# Altium integrated library Linear Technology Power Management System Supervisor, Monitor and Control.IntLib: 1611 symbols (part 75 of 100)
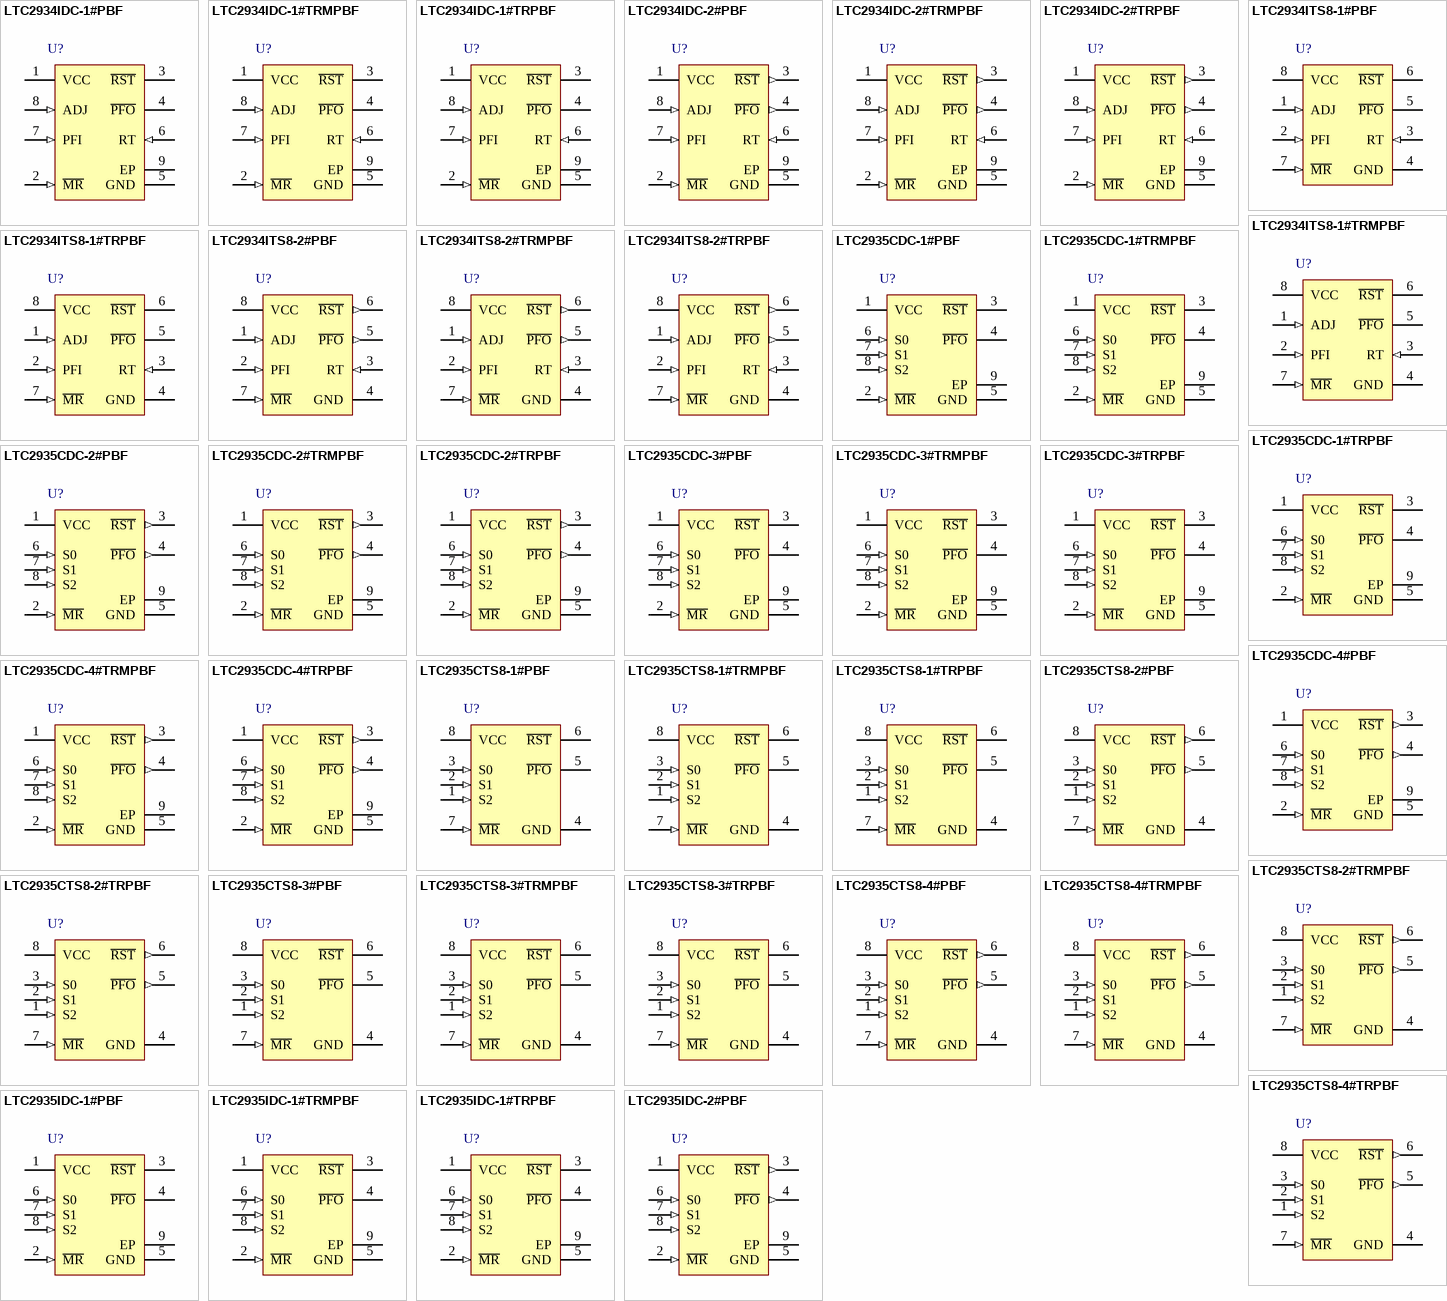
[diagram p119: symbols LTC2934IDC-1#PBF to LTC2935IDC-2#PBF]

## LTC2934ITS8-1#TRPBF
designator U?
Ultra-Low Power Adjustable Supervisor with Power-Fail Output, 8-pin SOT23 (TS8-8), -40 to 85 degC, Pb-Free, Tape and Reel; Manufacturer: Linear Technology; PartNumber: LTC2934ITS8-1#TRPBF; Number of Supplies(#): 1; PackageVersion: Rev. A, 08/2010; PackageReference: TS8-8; PackageDescription: 8-Pin Plastic TSOT-23, Body 2.9 x 1.63 mm, Pitch 0.65 mm; Supplier 1: Digi-Key; Supplier Part Number 1: LTC2934ITS8-1#TRPBF-ND; Packing: Tape and Reel; RoHS: TRUE; Mounting Technology: Surface Mount; Code_JEDEC: MO-193; ComponentLink1Description: Manufacturer URL; ComponentLink1URL: http://www.linear.com/; ComponentLink2Description: Datasheet; ComponentLink2URL: http://cds.linear.com/docs/en/datasheet/2934f.pdf; ComponentLink3Description: Package Specification; ComponentLink3URL: http://cds.linear.com/docs/en/packaging/SOT_8_05-08-1637.pdf
footprint LT-TS8-8-TSOT-23_V (SOT23, 8-Leads, Body 2.9x1.75mm, Pitch 0.65mm)
pins: 1 ADJ (in) "Reset Threshold Adjustment Input. Tie to resistive divider between monitored voltage and GND to configure  desired reset threshold. See the Applications Information  section for details. Tie to VCC if unused.", 2 PFI (in) "Power-Fail Threshold Adjustment Input. Tie to resistive divider between monitored voltage and GND to configure desired power-fail threshold. See the  Applications Information section for details. Tie to VCC or  GND if unused.", 3 RT (in) "Reset Timeout Selection Input. Tie to GND or VCC for desired reset timeout. Tie low for 15ms delay or high for  200ms delay.", 4 GND (power) "Device Ground.", 5 ~{PFO} (oc) "Power-Fail Output. P\F\O\ pulls low when monitored  voltage falls below the power-fail (PFI) threshold. P\F\O\ is released when the PFI voltage rises above the powerfail threshold by 2.5%. P\F\O\ is available with open-drain (See Datasheet)", 6 ~{RST} (oc) "Reset Output. R\S\T\ pulls low when monitored voltage falls below the reset threshold. R\S\T\ is released after  monitored voltage exceeds the reset threshold plus 5%  hysteresis and after reset timer has expired. R\S\T\ is (See Datasheet)", 7 ~{MR} (in) "Manual Reset Input. Attach a push-button switch between this input and ground. A logic low on this input pulls R\S\T\ low. When the M\R\ input returns to logic high,  R\S\T\ returns high after the reset timer has expired. (See Datasheet)", 8 VCC (power) "Power Supply Input. Bypass VCC with 0.1uF to  GND."

## LTC2934ITS8-2#PBF
designator U?
Ultra-Low Power Adjustable Supervisor with Power-Fail Output, 8-pin SOT23 (TS8-8), -40 to 85 degC, Pb-Free; Manufacturer: Linear Technology; PartNumber: LTC2934ITS8-2#PBF; Number of Supplies(#): 1; PackageVersion: Rev. A, 08/2010; PackageReference: TS8-8; PackageDescription: 8-Pin Plastic TSOT-23, Body 2.9 x 1.63 mm, Pitch 0.65 mm; RoHS: TRUE; Mounting Technology: Surface Mount; Code_JEDEC: MO-193; ComponentLink1Description: Manufacturer URL; ComponentLink1URL: http://www.linear.com/; ComponentLink2Description: Datasheet; ComponentLink2URL: http://cds.linear.com/docs/en/datasheet/2934f.pdf; ComponentLink3Description: Package Specification; ComponentLink3URL: http://cds.linear.com/docs/en/packaging/SOT_8_05-08-1637.pdf
footprint LT-TS8-8-TSOT-23_V (SOT23, 8-Leads, Body 2.9x1.75mm, Pitch 0.65mm)
pins: 1 ADJ (in) "Reset Threshold Adjustment Input. Tie to resistive divider between monitored voltage and GND to confi gure desired reset threshold. See the Applications Information section for details. Tie to VCC if unused.", 2 PFI (in) "Power-Fail Threshold Adjustment Input. Tie to resistive divider between monitored voltage and GND to configure desired power-fail threshold. See the Applications Information section for details. Tie to VCC or GND if unused.", 3 RT (in) "Reset Timeout Selection Input. Tie to GND or VCC for desired reset timeout. Tie low for 15ms delay or high for 200ms delay.", 4 GND (power) "Device Ground.", 5 ~{PFO} (out) "Power-Fail Output. P\F\O\ pulls low when monitored voltage falls below the power-fail (PFI) threshold. P\F\O\ is released when the PFI voltage rises above the powerfail threshold by 2.5%. P\F\O\ is available with open-drain (See Datasheet)", 6 ~{RST} (out) "Reset Output. R\S\T\ pulls low when monitored voltage falls below the reset threshold. R\S\T\ is released after monitored voltage exceeds the reset threshold plus 5% hysteresis and after reset timer has expired. R\S\T\ is (See Datasheet)", 7 ~{MR} (in) "Manual Reset Input. Attach a push-button switch between this input and ground. A logic low on this input pulls R\S\T\ low. When the M\R\ input returns to logic high, R\S\T\ returns high after the reset timer has expired. Tie (See Datasheet)", 8 VCC (power) "Power Supply Input. Bypass VCC with 0.1uF to GND."

## LTC2934ITS8-2#TRMPBF
designator U?
Ultra-Low Power Adjustable Supervisor with Power-Fail Output, 8-pin SOT23 (TS8-8), -40 to 85 degC, Pb-Free, Mini Tape and Reel; Manufacturer: Linear Technology; PartNumber: LTC2934ITS8-2#TRMPBF; Number of Supplies(#): 1; PackageVersion: Rev. A, 08/2010; PackageReference: TS8-8; PackageDescription: 8-Pin Plastic TSOT-23, Body 2.9 x 1.63 mm, Pitch 0.65 mm; Supplier 1: Digi-Key; Supplier Part Number 1: LTC2934ITS8-2#TRMPBFTR-ND; Supplier 2: Digi-Key; Supplier Part Number 2: LTC2934ITS8-2#TRMPBFCT-ND; Supplier 3: Digi-Key; Supplier Part Number 3: LTC2934ITS8-2#TRMPBFDKR-ND; Supplier 4: Newark; Supplier Part Number 4: 15N3498; Packing: Mini Tape and Reel; RoHS: TRUE; Mounting Technology: Surface Mount; Code_JEDEC: MO-193; ComponentLink1Description: Manufacturer URL; ComponentLink1URL: http://www.linear.com/; ComponentLink2Description: Datasheet; ComponentLink2URL: http://cds.linear.com/docs/en/datasheet/2934f.pdf; ComponentLink3Description: Package Specification; ComponentLink3URL: http://cds.linear.com/docs/en/packaging/SOT_8_05-08-1637.pdf
footprint LT-TS8-8-TSOT-23_V (SOT23, 8-Leads, Body 2.9x1.75mm, Pitch 0.65mm)
pins: 1 ADJ (in) "Reset Threshold Adjustment Input. Tie to resistive divider between monitored voltage and GND to confi gure desired reset threshold. See the Applications Information section for details. Tie to VCC if unused.", 2 PFI (in) "Power-Fail Threshold Adjustment Input. Tie to resistive divider between monitored voltage and GND to configure desired power-fail threshold. See the Applications Information section for details. Tie to VCC or GND if unused.", 3 RT (in) "Reset Timeout Selection Input. Tie to GND or VCC for desired reset timeout. Tie low for 15ms delay or high for 200ms delay.", 4 GND (power) "Device Ground.", 5 ~{PFO} (out) "Power-Fail Output. P\F\O\ pulls low when monitored voltage falls below the power-fail (PFI) threshold. P\F\O\ is released when the PFI voltage rises above the powerfail threshold by 2.5%. P\F\O\ is available with open-drain (See Datasheet)", 6 ~{RST} (out) "Reset Output. R\S\T\ pulls low when monitored voltage falls below the reset threshold. R\S\T\ is released after monitored voltage exceeds the reset threshold plus 5% hysteresis and after reset timer has expired. R\S\T\ is (See Datasheet)", 7 ~{MR} (in) "Manual Reset Input. Attach a push-button switch between this input and ground. A logic low on this input pulls R\S\T\ low. When the M\R\ input returns to logic high, R\S\T\ returns high after the reset timer has expired. Tie (See Datasheet)", 8 VCC (power) "Power Supply Input. Bypass VCC with 0.1uF to GND."

## LTC2934ITS8-2#TRPBF
designator U?
Ultra-Low Power Adjustable Supervisor with Power-Fail Output, 8-pin SOT23 (TS8-8), -40 to 85 degC, Pb-Free, Tape and Reel; Manufacturer: Linear Technology; PartNumber: LTC2934ITS8-2#TRPBF; Number of Supplies(#): 1; PackageVersion: Rev. A, 08/2010; PackageReference: TS8-8; PackageDescription: 8-Pin Plastic TSOT-23, Body 2.9 x 1.63 mm, Pitch 0.65 mm; Supplier 1: Digi-Key; Supplier Part Number 1: LTC2934ITS8-2#TRPBF-ND; Packing: Tape and Reel; RoHS: TRUE; Mounting Technology: Surface Mount; Code_JEDEC: MO-193; ComponentLink1Description: Manufacturer URL; ComponentLink1URL: http://www.linear.com/; ComponentLink2Description: Datasheet; ComponentLink2URL: http://cds.linear.com/docs/en/datasheet/2934f.pdf; ComponentLink3Description: Package Specification; ComponentLink3URL: http://cds.linear.com/docs/en/packaging/SOT_8_05-08-1637.pdf
footprint LT-TS8-8-TSOT-23_V (SOT23, 8-Leads, Body 2.9x1.75mm, Pitch 0.65mm)
pins: 1 ADJ (in) "Reset Threshold Adjustment Input. Tie to resistive divider between monitored voltage and GND to confi gure desired reset threshold. See the Applications Information section for details. Tie to VCC if unused.", 2 PFI (in) "Power-Fail Threshold Adjustment Input. Tie to resistive divider between monitored voltage and GND to configure desired power-fail threshold. See the Applications Information section for details. Tie to VCC or GND if unused.", 3 RT (in) "Reset Timeout Selection Input. Tie to GND or VCC for desired reset timeout. Tie low for 15ms delay or high for 200ms delay.", 4 GND (power) "Device Ground.", 5 ~{PFO} (out) "Power-Fail Output. P\F\O\ pulls low when monitored voltage falls below the power-fail (PFI) threshold. P\F\O\ is released when the PFI voltage rises above the powerfail threshold by 2.5%. P\F\O\ is available with open-drain (See Datasheet)", 6 ~{RST} (out) "Reset Output. R\S\T\ pulls low when monitored voltage falls below the reset threshold. R\S\T\ is released after monitored voltage exceeds the reset threshold plus 5% hysteresis and after reset timer has expired. R\S\T\ is (See Datasheet)", 7 ~{MR} (in) "Manual Reset Input. Attach a push-button switch between this input and ground. A logic low on this input pulls R\S\T\ low. When the M\R\ input returns to logic high, R\S\T\ returns high after the reset timer has expired. Tie (See Datasheet)", 8 VCC (power) "Power Supply Input. Bypass VCC with 0.1uF to GND."

## LTC2935CDC-1#PBF
designator U?
Ultra-Low Power Supervisor with Power-Fail Output, Selectable Threshold, 8-pin SON (DC8-8), 0 to 70 degC, Pb-Free; Manufacturer: Linear Technology; PartNumber: LTC2935CDC-1#PBF; Number of Supplies(#): 1; DatasheetVersion: Rev. A; PackageVersion: Rev. A, 06/2010; PackageReference: DC8-8; PackageDescription: 8-Pin Plastic DFN, Body 2 x 2 mm, Pitch 0.45 mm; RoHS: TRUE; Mounting Technology: Surface Mount; ComponentLink1Description: Manufacturer URL; ComponentLink1URL: http://www.linear.com/; ComponentLink2Description: Datasheet; ComponentLink2URL: http://cds.linear.com/docs/en/datasheet/2935fa.pdf; ComponentLink3Description: Package Specification; ComponentLink3URL: http://www.linear.com/docs/en/packaging/DFN_8_05-08-1719.pdf
footprint LT-DC8-8_V (SON, 8-Leads, Body 2x2mm, Pitch 0.45mm, Thermal Pad 1.37x0.64mm)
pins: 1 VCC (power) "Power Supply and Monitored Voltage Input. Bypass VCC with a 0.1uF capacitor to GND.", 2 ~{MR} (in) "Manual Reset Input. Attach a pushbutton switch between this input and ground. A logic low on this input pulls R\S\T\ low. When the M\R\ input returns to logic high, R\S\T\ returns high after 200ms. Tie to VCC if unused.", 3 ~{RST} (oc) "Reset Output. R\S\T\ pulls low when VCC falls below the reset threshold. R\S\T\ is released 200ms after VCC exceeds the reset threshold plus 5% hysteresis. R\S\T\ is available with open-drain (LTC2935-1/LTC2935-3) or active (See Datasheet)", 4 ~{PFO} (oc) "Power-Fail Output. P\F\O\ pulls low when VCC falls below the power-fail threshold. The power-fail threshold is above the configured falling reset threshold by a pre-determined margin. P\F\O\ is released when VCC rises above (See Datasheet)", 5 GND (power) "Device ground.", 6 S0 (in) "Threshold Selection Input. Tie to GND or VCC for required reset threshold. See the Falling Threshold Selection Table on page 1 for settings.", 7 S1 (in) "Threshold Selection Input. Tie to GND or VCC for required reset threshold. See the Falling Threshold Selection Table on page 1 for settings.", 8 S2 (in) "Threshold Selection Input. Tie to GND or VCC for required reset threshold. See the Falling Threshold Selection Table on page 1 for settings.", 9 EP (power) "Exposed Pad may be left floating or connected to device ground."

## LTC2935CDC-1#TRMPBF
designator U?
Ultra-Low Power Supervisor with Power-Fail Output, Selectable Threshold, 8-pin SON (DC8-8), 0 to 70 degC, Pb-Free, Mini Tape and Reel; Manufacturer: Linear Technology; PartNumber: LTC2935CDC-1#TRMPBF; Number of Supplies(#): 1; DatasheetVersion: Rev. A; PackageVersion: Rev. A, 06/2010; PackageReference: DC8-8; PackageDescription: 8-Pin Plastic DFN, Body 2 x 2 mm, Pitch 0.45 mm; Supplier 1: Digi-Key; Supplier Part Number 1: LTC2935CDC-1#TRMPBFTR-ND; Supplier 2: Digi-Key; Supplier Part Number 2: LTC2935CDC-1#TRMPBFCT-ND; Supplier 3: Digi-Key; Supplier Part Number 3: LTC2935CDC-1#TRMPBFDKR-ND; Supplier 4: Farnell; Supplier Part Number 4: 1715075; Packing: Mini Tape and Reel; RoHS: TRUE; Mounting Technology: Surface Mount; ComponentLink1Description: Manufacturer URL; ComponentLink1URL: http://www.linear.com/; ComponentLink2Description: Datasheet; ComponentLink2URL: http://cds.linear.com/docs/en/datasheet/2935fa.pdf; ComponentLink3Description: Package Specification; ComponentLink3URL: http://www.linear.com/docs/en/packaging/DFN_8_05-08-1719.pdf
footprint LT-DC8-8_V (SON, 8-Leads, Body 2x2mm, Pitch 0.45mm, Thermal Pad 1.37x0.64mm)
pins: 1 VCC (power) "Power Supply and Monitored Voltage Input. Bypass VCC with a 0.1uF capacitor to GND.", 2 ~{MR} (in) "Manual Reset Input. Attach a pushbutton switch between this input and ground. A logic low on this input pulls R\S\T\ low. When the M\R\ input returns to logic high, R\S\T\ returns high after 200ms. Tie to VCC if unused.", 3 ~{RST} (oc) "Reset Output. R\S\T\ pulls low when VCC falls below the reset threshold. R\S\T\ is released 200ms after VCC exceeds the reset threshold plus 5% hysteresis. R\S\T\ is available with open-drain (LTC2935-1/LTC2935-3) or active (See Datasheet)", 4 ~{PFO} (oc) "Power-Fail Output. P\F\O\ pulls low when VCC falls below the power-fail threshold. The power-fail threshold is above the configured falling reset threshold by a pre-determined margin. P\F\O\ is released when VCC rises above (See Datasheet)", 5 GND (power) "Device ground.", 6 S0 (in) "Threshold Selection Input. Tie to GND or VCC for required reset threshold. See the Falling Threshold Selection Table on page 1 for settings.", 7 S1 (in) "Threshold Selection Input. Tie to GND or VCC for required reset threshold. See the Falling Threshold Selection Table on page 1 for settings.", 8 S2 (in) "Threshold Selection Input. Tie to GND or VCC for required reset threshold. See the Falling Threshold Selection Table on page 1 for settings.", 9 EP (power) "Exposed Pad may be left floating or connected to device ground."

## LTC2935CDC-1#TRPBF
designator U?
Ultra-Low Power Supervisor with Power-Fail Output, Selectable Threshold, 8-pin SON (DC8-8), 0 to 70 degC, Pb-Free, Tape and Reel; Manufacturer: Linear Technology; PartNumber: LTC2935CDC-1#TRPBF; Number of Supplies(#): 1; DatasheetVersion: Rev. A; PackageVersion: Rev. A, 06/2010; PackageReference: DC8-8; PackageDescription: 8-Pin Plastic DFN, Body 2 x 2 mm, Pitch 0.45 mm; Supplier 1: Digi-Key; Supplier Part Number 1: LTC2935CDC-1#TRPBF-ND; Packing: Tape and Reel; RoHS: TRUE; Mounting Technology: Surface Mount; ComponentLink1Description: Manufacturer URL; ComponentLink1URL: http://www.linear.com/; ComponentLink2Description: Datasheet; ComponentLink2URL: http://cds.linear.com/docs/en/datasheet/2935fa.pdf; ComponentLink3Description: Package Specification; ComponentLink3URL: http://www.linear.com/docs/en/packaging/DFN_8_05-08-1719.pdf
footprint LT-DC8-8_V (SON, 8-Leads, Body 2x2mm, Pitch 0.45mm, Thermal Pad 1.37x0.64mm)
pins: 1 VCC (power) "Power Supply and Monitored Voltage Input. Bypass VCC with a 0.1uF capacitor to GND.", 2 ~{MR} (in) "Manual Reset Input. Attach a pushbutton switch between this input and ground. A logic low on this input pulls R\S\T\ low. When the M\R\ input returns to logic high, R\S\T\ returns high after 200ms. Tie to VCC if unused.", 3 ~{RST} (oc) "Reset Output. R\S\T\ pulls low when VCC falls below the reset threshold. R\S\T\ is released 200ms after VCC exceeds the reset threshold plus 5% hysteresis. R\S\T\ is available with open-drain (LTC2935-1/LTC2935-3) or active (See Datasheet)", 4 ~{PFO} (oc) "Power-Fail Output. P\F\O\ pulls low when VCC falls below the power-fail threshold. The power-fail threshold is above the configured falling reset threshold by a pre-determined margin. P\F\O\ is released when VCC rises above (See Datasheet)", 5 GND (power) "Device ground.", 6 S0 (in) "Threshold Selection Input. Tie to GND or VCC for required reset threshold. See the Falling Threshold Selection Table on page 1 for settings.", 7 S1 (in) "Threshold Selection Input. Tie to GND or VCC for required reset threshold. See the Falling Threshold Selection Table on page 1 for settings.", 8 S2 (in) "Threshold Selection Input. Tie to GND or VCC for required reset threshold. See the Falling Threshold Selection Table on page 1 for settings.", 9 EP (power) "Exposed Pad may be left floating or connected to device ground."

## LTC2935CDC-2#PBF
designator U?
Ultra-Low Power Supervisor with Power-Fail Output, Selectable Threshold, 8-pin SON (DC8-8), 0 to 70 degC, Pb-Free; Manufacturer: Linear Technology; PartNumber: LTC2935CDC-2#PBF; Number of Supplies(#): 1; DatasheetVersion: Rev. A; PackageVersion: Rev. A, 06/2010; PackageReference: DC8-8; PackageDescription: 8-Pin Plastic DFN, Body 2 x 2 mm, Pitch 0.45 mm; Supplier 1: Newark; Supplier Part Number 1: 78T3095; RoHS: TRUE; Mounting Technology: Surface Mount; ComponentLink1Description: Manufacturer URL; ComponentLink1URL: http://www.linear.com/; ComponentLink2Description: Datasheet; ComponentLink2URL: http://cds.linear.com/docs/en/datasheet/2935fa.pdf; ComponentLink3Description: Package Specification; ComponentLink3URL: http://www.linear.com/docs/en/packaging/DFN_8_05-08-1719.pdf
footprint LT-DC8-8_V (SON, 8-Leads, Body 2x2mm, Pitch 0.45mm, Thermal Pad 1.37x0.64mm)
pins: 1 VCC (power) "Power Supply and Monitored Voltage Input. Bypass VCC with a 0.1uF capacitor to GND.", 2 ~{MR} (in) "Manual Reset Input. Attach a pushbutton switch between this input and ground. A logic low on this input pulls R\S\T\ low. When the M\R\ input returns to logic high, R\S\T\ returns high after 200ms. Tie to VCC if unused.", 3 ~{RST} (out) "Reset Output. R\S\T\ pulls low when VCC falls below the reset threshold. R\S\T\ is released 200ms after VCC exceeds the reset threshold plus 5% hysteresis. R\S\T\ is available with open-drain (LTC2935-1/LTC2935-3) or active (See Datasheet)", 4 ~{PFO} (out) "Power-Fail Output. P\F\O\ pulls low when VCC falls below the power-fail threshold. The power-fail threshold is above the configured falling reset threshold by a pre-determined margin. P\F\O\ is released when VCC rises above (See Datasheet)", 5 GND (power) "Device ground.", 6 S0 (in) "Threshold Selection Input. Tie to GND or VCC for required reset threshold. See the Falling Threshold Selection Table on page 1 for settings.", 7 S1 (in) "Threshold Selection Input. Tie to GND or VCC for required reset threshold. See the Falling Threshold Selection Table on page 1 for settings.", 8 S2 (in) "Threshold Selection Input. Tie to GND or VCC for required reset threshold. See the Falling Threshold Selection Table on page 1 for settings.", 9 EP (power) "Exposed Pad may be left floating or connected to device ground."

## LTC2935CDC-2#TRMPBF
designator U?
Ultra-Low Power Supervisor with Power-Fail Output, Selectable Threshold, 8-pin SON (DC8-8), 0 to 70 degC, Pb-Free, Mini Tape and Reel; Manufacturer: Linear Technology; PartNumber: LTC2935CDC-2#TRMPBF; Number of Supplies(#): 1; DatasheetVersion: Rev. A; PackageVersion: Rev. A, 06/2010; PackageReference: DC8-8; PackageDescription: 8-Pin Plastic DFN, Body 2 x 2 mm, Pitch 0.45 mm; Supplier 1: Digi-Key; Supplier Part Number 1: LTC2935CDC-2#TRMPBFTR-ND; Supplier 2: Digi-Key; Supplier Part Number 2: LTC2935CDC-2#TRMPBFCT-ND; Supplier 3: Digi-Key; Supplier Part Number 3: LTC2935CDC-2#TRMPBFDKR-ND; Supplier 4: Farnell; Supplier Part Number 4: 1715076; Packing: Mini Tape and Reel; RoHS: TRUE; Mounting Technology: Surface Mount; ComponentLink1Description: Manufacturer URL; ComponentLink1URL: http://www.linear.com/; ComponentLink2Description: Datasheet; ComponentLink2URL: http://cds.linear.com/docs/en/datasheet/2935fa.pdf; ComponentLink3Description: Package Specification; ComponentLink3URL: http://www.linear.com/docs/en/packaging/DFN_8_05-08-1719.pdf
footprint LT-DC8-8_V (SON, 8-Leads, Body 2x2mm, Pitch 0.45mm, Thermal Pad 1.37x0.64mm)
pins: 1 VCC (power) "Power Supply and Monitored Voltage Input. Bypass VCC with a 0.1uF capacitor to GND.", 2 ~{MR} (in) "Manual Reset Input. Attach a pushbutton switch between this input and ground. A logic low on this input pulls R\S\T\ low. When the M\R\ input returns to logic high, R\S\T\ returns high after 200ms. Tie to VCC if unused.", 3 ~{RST} (out) "Reset Output. R\S\T\ pulls low when VCC falls below the reset threshold. R\S\T\ is released 200ms after VCC exceeds the reset threshold plus 5% hysteresis. R\S\T\ is available with open-drain (LTC2935-1/LTC2935-3) or active (See Datasheet)", 4 ~{PFO} (out) "Power-Fail Output. P\F\O\ pulls low when VCC falls below the power-fail threshold. The power-fail threshold is above the configured falling reset threshold by a pre-determined margin. P\F\O\ is released when VCC rises above (See Datasheet)", 5 GND (power) "Device ground.", 6 S0 (in) "Threshold Selection Input. Tie to GND or VCC for required reset threshold. See the Falling Threshold Selection Table on page 1 for settings.", 7 S1 (in) "Threshold Selection Input. Tie to GND or VCC for required reset threshold. See the Falling Threshold Selection Table on page 1 for settings.", 8 S2 (in) "Threshold Selection Input. Tie to GND or VCC for required reset threshold. See the Falling Threshold Selection Table on page 1 for settings.", 9 EP (power) "Exposed Pad may be left floating or connected to device ground."

## LTC2935CDC-2#TRPBF
designator U?
Ultra-Low Power Supervisor with Power-Fail Output, Selectable Threshold, 8-pin SON (DC8-8), 0 to 70 degC, Pb-Free, Tape and Reel; Manufacturer: Linear Technology; PartNumber: LTC2935CDC-2#TRPBF; Number of Supplies(#): 1; DatasheetVersion: Rev. A; PackageVersion: Rev. A, 06/2010; PackageReference: DC8-8; PackageDescription: 8-Pin Plastic DFN, Body 2 x 2 mm, Pitch 0.45 mm; Supplier 1: Digi-Key; Supplier Part Number 1: LTC2935CDC-2#TRPBF-ND; Packing: Tape and Reel; RoHS: TRUE; Mounting Technology: Surface Mount; ComponentLink1Description: Manufacturer URL; ComponentLink1URL: http://www.linear.com/; ComponentLink2Description: Datasheet; ComponentLink2URL: http://cds.linear.com/docs/en/datasheet/2935fa.pdf; ComponentLink3Description: Package Specification; ComponentLink3URL: http://www.linear.com/docs/en/packaging/DFN_8_05-08-1719.pdf
footprint LT-DC8-8_V (SON, 8-Leads, Body 2x2mm, Pitch 0.45mm, Thermal Pad 1.37x0.64mm)
pins: 1 VCC (power) "Power Supply and Monitored Voltage Input. Bypass VCC with a 0.1uF capacitor to GND.", 2 ~{MR} (in) "Manual Reset Input. Attach a pushbutton switch between this input and ground. A logic low on this input pulls R\S\T\ low. When the M\R\ input returns to logic high, R\S\T\ returns high after 200ms. Tie to VCC if unused.", 3 ~{RST} (out) "Reset Output. R\S\T\ pulls low when VCC falls below the reset threshold. R\S\T\ is released 200ms after VCC exceeds the reset threshold plus 5% hysteresis. R\S\T\ is available with open-drain (LTC2935-1/LTC2935-3) or active (See Datasheet)", 4 ~{PFO} (out) "Power-Fail Output. P\F\O\ pulls low when VCC falls below the power-fail threshold. The power-fail threshold is above the configured falling reset threshold by a pre-determined margin. P\F\O\ is released when VCC rises above (See Datasheet)", 5 GND (power) "Device ground.", 6 S0 (in) "Threshold Selection Input. Tie to GND or VCC for required reset threshold. See the Falling Threshold Selection Table on page 1 for settings.", 7 S1 (in) "Threshold Selection Input. Tie to GND or VCC for required reset threshold. See the Falling Threshold Selection Table on page 1 for settings.", 8 S2 (in) "Threshold Selection Input. Tie to GND or VCC for required reset threshold. See the Falling Threshold Selection Table on page 1 for settings.", 9 EP (power) "Exposed Pad may be left floating or connected to device ground."

## LTC2935CDC-3#PBF
designator U?
Ultra-Low Power Supervisor with Power-Fail Output, Selectable Threshold, 8-pin SON (DC8-8), 0 to 70 degC, Pb-Free; Manufacturer: Linear Technology; PartNumber: LTC2935CDC-3#PBF; Number of Supplies(#): 1; DatasheetVersion: Rev. A; PackageVersion: Rev. A, 06/2010; PackageReference: DC8-8; PackageDescription: 8-Pin Plastic DFN, Body 2 x 2 mm, Pitch 0.45 mm; Supplier 1: Newark; Supplier Part Number 1: 24R8509; RoHS: TRUE; Mounting Technology: Surface Mount; ComponentLink1Description: Manufacturer URL; ComponentLink1URL: http://www.linear.com/; ComponentLink2Description: Datasheet; ComponentLink2URL: http://cds.linear.com/docs/en/datasheet/2935fa.pdf; ComponentLink3Description: Package Specification; ComponentLink3URL: http://www.linear.com/docs/en/packaging/DFN_8_05-08-1719.pdf
footprint LT-DC8-8_V (SON, 8-Leads, Body 2x2mm, Pitch 0.45mm, Thermal Pad 1.37x0.64mm)
pins: 1 VCC (power) "Power Supply and Monitored Voltage Input. Bypass VCC with a 0.1uF capacitor to GND.", 2 ~{MR} (in) "Manual Reset Input. Attach a pushbutton switch between this input and ground. A logic low on this input pulls R\S\T\ low. When the M\R\ input returns to logic high, R\S\T\ returns high after 200ms. Tie to VCC if unused.", 3 ~{RST} (oc) "Reset Output. R\S\T\ pulls low when VCC falls below the reset threshold. R\S\T\ is released 200ms after VCC exceeds the reset threshold plus 5% hysteresis. R\S\T\ is available with open-drain (LTC2935-1/LTC2935-3) or active (See Datasheet)", 4 ~{PFO} (oc) "Power-Fail Output. P\F\O\ pulls low when VCC falls below the power-fail threshold. The power-fail threshold is above the configured falling reset threshold by a pre-determined margin. P\F\O\ is released when VCC rises above (See Datasheet)", 5 GND (power) "Device ground.", 6 S0 (in) "Threshold Selection Input. Tie to GND or VCC for required reset threshold. See the Falling Threshold Selection Table on page 1 for settings.", 7 S1 (in) "Threshold Selection Input. Tie to GND or VCC for required reset threshold. See the Falling Threshold Selection Table on page 1 for settings.", 8 S2 (in) "Threshold Selection Input. Tie to GND or VCC for required reset threshold. See the Falling Threshold Selection Table on page 1 for settings.", 9 EP (power) "Exposed Pad may be left floating or connected to device ground."

## LTC2935CDC-3#TRMPBF
designator U?
Ultra-Low Power Supervisor with Power-Fail Output, Selectable Threshold, 8-pin SON (DC8-8), 0 to 70 degC, Pb-Free, Mini Tape and Reel; Manufacturer: Linear Technology; PartNumber: LTC2935CDC-3#TRMPBF; Number of Supplies(#): 1; DatasheetVersion: Rev. A; PackageVersion: Rev. A, 06/2010; PackageReference: DC8-8; PackageDescription: 8-Pin Plastic DFN, Body 2 x 2 mm, Pitch 0.45 mm; Supplier 1: Digi-Key; Supplier Part Number 1: LTC2935CDC-3#TRMPBFTR-ND; Supplier 2: Digi-Key; Supplier Part Number 2: LTC2935CDC-3#TRMPBFCT-ND; Supplier 3: Digi-Key; Supplier Part Number 3: LTC2935CDC-3#TRMPBFDKR-ND; Packing: Mini Tape and Reel; RoHS: TRUE; Mounting Technology: Surface Mount; ComponentLink1Description: Manufacturer URL; ComponentLink1URL: http://www.linear.com/; ComponentLink2Description: Datasheet; ComponentLink2URL: http://cds.linear.com/docs/en/datasheet/2935fa.pdf; ComponentLink3Description: Package Specification; ComponentLink3URL: http://www.linear.com/docs/en/packaging/DFN_8_05-08-1719.pdf
footprint LT-DC8-8_V (SON, 8-Leads, Body 2x2mm, Pitch 0.45mm, Thermal Pad 1.37x0.64mm)
pins: 1 VCC (power) "Power Supply and Monitored Voltage Input. Bypass VCC with a 0.1uF capacitor to GND.", 2 ~{MR} (in) "Manual Reset Input. Attach a pushbutton switch between this input and ground. A logic low on this input pulls R\S\T\ low. When the M\R\ input returns to logic high, R\S\T\ returns high after 200ms. Tie to VCC if unused.", 3 ~{RST} (oc) "Reset Output. R\S\T\ pulls low when VCC falls below the reset threshold. R\S\T\ is released 200ms after VCC exceeds the reset threshold plus 5% hysteresis. R\S\T\ is available with open-drain (LTC2935-1/LTC2935-3) or active (See Datasheet)", 4 ~{PFO} (oc) "Power-Fail Output. P\F\O\ pulls low when VCC falls below the power-fail threshold. The power-fail threshold is above the configured falling reset threshold by a pre-determined margin. P\F\O\ is released when VCC rises above (See Datasheet)", 5 GND (power) "Device ground.", 6 S0 (in) "Threshold Selection Input. Tie to GND or VCC for required reset threshold. See the Falling Threshold Selection Table on page 1 for settings.", 7 S1 (in) "Threshold Selection Input. Tie to GND or VCC for required reset threshold. See the Falling Threshold Selection Table on page 1 for settings.", 8 S2 (in) "Threshold Selection Input. Tie to GND or VCC for required reset threshold. See the Falling Threshold Selection Table on page 1 for settings.", 9 EP (power) "Exposed Pad may be left floating or connected to device ground."

## LTC2935CDC-3#TRPBF
designator U?
Ultra-Low Power Supervisor with Power-Fail Output, Selectable Threshold, 8-pin SON (DC8-8), 0 to 70 degC, Pb-Free, Tape and Reel; Manufacturer: Linear Technology; PartNumber: LTC2935CDC-3#TRPBF; Number of Supplies(#): 1; DatasheetVersion: Rev. A; PackageVersion: Rev. A, 06/2010; PackageReference: DC8-8; PackageDescription: 8-Pin Plastic DFN, Body 2 x 2 mm, Pitch 0.45 mm; Supplier 1: Digi-Key; Supplier Part Number 1: LTC2935CDC-3#TRPBF-ND; Packing: Tape and Reel; RoHS: TRUE; Mounting Technology: Surface Mount; ComponentLink1Description: Manufacturer URL; ComponentLink1URL: http://www.linear.com/; ComponentLink2Description: Datasheet; ComponentLink2URL: http://cds.linear.com/docs/en/datasheet/2935fa.pdf; ComponentLink3Description: Package Specification; ComponentLink3URL: http://www.linear.com/docs/en/packaging/DFN_8_05-08-1719.pdf
footprint LT-DC8-8_V (SON, 8-Leads, Body 2x2mm, Pitch 0.45mm, Thermal Pad 1.37x0.64mm)
pins: 1 VCC (power) "Power Supply and Monitored Voltage Input. Bypass VCC with a 0.1uF capacitor to GND.", 2 ~{MR} (in) "Manual Reset Input. Attach a pushbutton switch between this input and ground. A logic low on this input pulls R\S\T\ low. When the M\R\ input returns to logic high, R\S\T\ returns high after 200ms. Tie to VCC if unused.", 3 ~{RST} (oc) "Reset Output. R\S\T\ pulls low when VCC falls below the reset threshold. R\S\T\ is released 200ms after VCC exceeds the reset threshold plus 5% hysteresis. R\S\T\ is available with open-drain (LTC2935-1/LTC2935-3) or active (See Datasheet)", 4 ~{PFO} (oc) "Power-Fail Output. P\F\O\ pulls low when VCC falls below the power-fail threshold. The power-fail threshold is above the configured falling reset threshold by a pre-determined margin. P\F\O\ is released when VCC rises above (See Datasheet)", 5 GND (power) "Device ground.", 6 S0 (in) "Threshold Selection Input. Tie to GND or VCC for required reset threshold. See the Falling Threshold Selection Table on page 1 for settings.", 7 S1 (in) "Threshold Selection Input. Tie to GND or VCC for required reset threshold. See the Falling Threshold Selection Table on page 1 for settings.", 8 S2 (in) "Threshold Selection Input. Tie to GND or VCC for required reset threshold. See the Falling Threshold Selection Table on page 1 for settings.", 9 EP (power) "Exposed Pad may be left floating or connected to device ground."

## LTC2935CDC-4#PBF
designator U?
Ultra-Low Power Supervisor with Power-Fail Output, Selectable Threshold, 8-pin SON (DC8-8), 0 to 70 degC, Pb-Free; Manufacturer: Linear Technology; PartNumber: LTC2935CDC-4#PBF; Number of Supplies(#): 1; DatasheetVersion: Rev. A; PackageVersion: Rev. A, 06/2010; PackageReference: DC8-8; PackageDescription: 8-Pin Plastic DFN, Body 2 x 2 mm, Pitch 0.45 mm; Supplier 1: Newark; Supplier Part Number 1: 24R8510; RoHS: TRUE; Mounting Technology: Surface Mount; ComponentLink1Description: Manufacturer URL; ComponentLink1URL: http://www.linear.com/; ComponentLink2Description: Datasheet; ComponentLink2URL: http://cds.linear.com/docs/en/datasheet/2935fa.pdf; ComponentLink3Description: Package Specification; ComponentLink3URL: http://www.linear.com/docs/en/packaging/DFN_8_05-08-1719.pdf
footprint LT-DC8-8_V (SON, 8-Leads, Body 2x2mm, Pitch 0.45mm, Thermal Pad 1.37x0.64mm)
pins: 1 VCC (power) "Power Supply and Monitored Voltage Input. Bypass VCC with a 0.1uF capacitor to GND.", 2 ~{MR} (in) "Manual Reset Input. Attach a pushbutton switch between this input and ground. A logic low on this input pulls R\S\T\ low. When the M\R\ input returns to logic high, R\S\T\ returns high after 200ms. Tie to VCC if unused.", 3 ~{RST} (out) "Reset Output. R\S\T\ pulls low when VCC falls below the reset threshold. R\S\T\ is released 200ms after VCC exceeds the reset threshold plus 5% hysteresis. R\S\T\ is available with open-drain (LTC2935-1/LTC2935-3) or active (See Datasheet)", 4 ~{PFO} (out) "Power-Fail Output. P\F\O\ pulls low when VCC falls below the power-fail threshold. The power-fail threshold is above the configured falling reset threshold by a pre-determined margin. P\F\O\ is released when VCC rises above (See Datasheet)", 5 GND (power) "Device ground.", 6 S0 (in) "Threshold Selection Input. Tie to GND or VCC for required reset threshold. See the Falling Threshold Selection Table on page 1 for settings.", 7 S1 (in) "Threshold Selection Input. Tie to GND or VCC for required reset threshold. See the Falling Threshold Selection Table on page 1 for settings.", 8 S2 (in) "Threshold Selection Input. Tie to GND or VCC for required reset threshold. See the Falling Threshold Selection Table on page 1 for settings.", 9 EP (power) "Exposed Pad may be left floating or connected to device ground."

## LTC2935CDC-4#TRMPBF
designator U?
Ultra-Low Power Supervisor with Power-Fail Output, Selectable Threshold, 8-pin SON (DC8-8), 0 to 70 degC, Pb-Free, Mini Tape and Reel; Manufacturer: Linear Technology; PartNumber: LTC2935CDC-4#TRMPBF; Number of Supplies(#): 1; DatasheetVersion: Rev. A; PackageVersion: Rev. A, 06/2010; PackageReference: DC8-8; PackageDescription: 8-Pin Plastic DFN, Body 2 x 2 mm, Pitch 0.45 mm; Supplier 1: Digi-Key; Supplier Part Number 1: LTC2935CDC-4#TRMPBFTR-ND; Supplier 2: Digi-Key; Supplier Part Number 2: LTC2935CDC-4#TRMPBFCT-ND; Supplier 3: Digi-Key; Supplier Part Number 3: LTC2935CDC-4#TRMPBFDKR-ND; Packing: Mini Tape and Reel; RoHS: TRUE; Mounting Technology: Surface Mount; ComponentLink1Description: Manufacturer URL; ComponentLink1URL: http://www.linear.com/; ComponentLink2Description: Datasheet; ComponentLink2URL: http://cds.linear.com/docs/en/datasheet/2935fa.pdf; ComponentLink3Description: Package Specification; ComponentLink3URL: http://www.linear.com/docs/en/packaging/DFN_8_05-08-1719.pdf
footprint LT-DC8-8_V (SON, 8-Leads, Body 2x2mm, Pitch 0.45mm, Thermal Pad 1.37x0.64mm)
pins: 1 VCC (power) "Power Supply and Monitored Voltage Input. Bypass VCC with a 0.1uF capacitor to GND.", 2 ~{MR} (in) "Manual Reset Input. Attach a pushbutton switch between this input and ground. A logic low on this input pulls R\S\T\ low. When the M\R\ input returns to logic high, R\S\T\ returns high after 200ms. Tie to VCC if unused.", 3 ~{RST} (out) "Reset Output. R\S\T\ pulls low when VCC falls below the reset threshold. R\S\T\ is released 200ms after VCC exceeds the reset threshold plus 5% hysteresis. R\S\T\ is available with open-drain (LTC2935-1/LTC2935-3) or active (See Datasheet)", 4 ~{PFO} (out) "Power-Fail Output. P\F\O\ pulls low when VCC falls below the power-fail threshold. The power-fail threshold is above the configured falling reset threshold by a pre-determined margin. P\F\O\ is released when VCC rises above (See Datasheet)", 5 GND (power) "Device ground.", 6 S0 (in) "Threshold Selection Input. Tie to GND or VCC for required reset threshold. See the Falling Threshold Selection Table on page 1 for settings.", 7 S1 (in) "Threshold Selection Input. Tie to GND or VCC for required reset threshold. See the Falling Threshold Selection Table on page 1 for settings.", 8 S2 (in) "Threshold Selection Input. Tie to GND or VCC for required reset threshold. See the Falling Threshold Selection Table on page 1 for settings.", 9 EP (power) "Exposed Pad may be left floating or connected to device ground."

## LTC2935CDC-4#TRPBF
designator U?
Ultra-Low Power Supervisor with Power-Fail Output, Selectable Threshold, 8-pin SON (DC8-8), 0 to 70 degC, Pb-Free, Tape and Reel; Manufacturer: Linear Technology; PartNumber: LTC2935CDC-4#TRPBF; Number of Supplies(#): 1; DatasheetVersion: Rev. A; PackageVersion: Rev. A, 06/2010; PackageReference: DC8-8; PackageDescription: 8-Pin Plastic DFN, Body 2 x 2 mm, Pitch 0.45 mm; Supplier 1: Digi-Key; Supplier Part Number 1: LTC2935CDC-4#TRPBF-ND; Packing: Tape and Reel; RoHS: TRUE; Mounting Technology: Surface Mount; ComponentLink1Description: Manufacturer URL; ComponentLink1URL: http://www.linear.com/; ComponentLink2Description: Datasheet; ComponentLink2URL: http://cds.linear.com/docs/en/datasheet/2935fa.pdf; ComponentLink3Description: Package Specification; ComponentLink3URL: http://www.linear.com/docs/en/packaging/DFN_8_05-08-1719.pdf
footprint LT-DC8-8_V (SON, 8-Leads, Body 2x2mm, Pitch 0.45mm, Thermal Pad 1.37x0.64mm)
pins: 1 VCC (power) "Power Supply and Monitored Voltage Input. Bypass VCC with a 0.1uF capacitor to GND.", 2 ~{MR} (in) "Manual Reset Input. Attach a pushbutton switch between this input and ground. A logic low on this input pulls R\S\T\ low. When the M\R\ input returns to logic high, R\S\T\ returns high after 200ms. Tie to VCC if unused.", 3 ~{RST} (out) "Reset Output. R\S\T\ pulls low when VCC falls below the reset threshold. R\S\T\ is released 200ms after VCC exceeds the reset threshold plus 5% hysteresis. R\S\T\ is available with open-drain (LTC2935-1/LTC2935-3) or active (See Datasheet)", 4 ~{PFO} (out) "Power-Fail Output. P\F\O\ pulls low when VCC falls below the power-fail threshold. The power-fail threshold is above the configured falling reset threshold by a pre-determined margin. P\F\O\ is released when VCC rises above (See Datasheet)", 5 GND (power) "Device ground.", 6 S0 (in) "Threshold Selection Input. Tie to GND or VCC for required reset threshold. See the Falling Threshold Selection Table on page 1 for settings.", 7 S1 (in) "Threshold Selection Input. Tie to GND or VCC for required reset threshold. See the Falling Threshold Selection Table on page 1 for settings.", 8 S2 (in) "Threshold Selection Input. Tie to GND or VCC for required reset threshold. See the Falling Threshold Selection Table on page 1 for settings.", 9 EP (power) "Exposed Pad may be left floating or connected to device ground."

## LTC2935CTS8-1#PBF
designator U?
Ultra-Low Power Supervisor with Power-Fail Output, Selectable Threshold, 8-pin SOT23 (TS8-8), 0 to 70 degC, Pb-Free; Manufacturer: Linear Technology; PartNumber: LTC2935CTS8-1#PBF; Number of Supplies(#): 1; DatasheetVersion: Rev. A; PackageVersion: Rev. A, 08/2010; PackageReference: TS8-8; PackageDescription: 8-Pin Plastic TSOT-23, Body 2.9 x 1.63 mm, Pitch 0.65 mm; Supplier 1: Farnell; Supplier Part Number 1: 2295449; RoHS: TRUE; Mounting Technology: Surface Mount; Code_JEDEC: MO-193; ComponentLink1Description: Manufacturer URL; ComponentLink1URL: http://www.linear.com/; ComponentLink2Description: Datasheet; ComponentLink2URL: http://cds.linear.com/docs/en/datasheet/2935fa.pdf; ComponentLink3Description: Package Specification; ComponentLink3URL: http://cds.linear.com/docs/en/packaging/SOT_8_05-08-1637.pdf
footprint LT-TS8-8-TSOT-23_V (SOT23, 8-Leads, Body 2.9x1.75mm, Pitch 0.65mm)
pins: 1 S2 (in) "Threshold Selection Input. Tie to GND or VCC for required reset threshold. See the Falling Threshold Selection Table on page 1 for settings.", 2 S1 (in) "Threshold Selection Input. Tie to GND or VCC for required reset threshold. See the Falling Threshold Selection Table on page 1 for settings.", 3 S0 (in) "Threshold Selection Input. Tie to GND or VCC for required reset threshold. See the Falling Threshold Selection Table on page 1 for settings.", 4 GND (power) "Device ground.", 5 ~{PFO} (oc) "Power-Fail Output. P\F\O\ pulls low when VCC falls below the power-fail threshold. The power-fail threshold is above the configured falling reset threshold by a pre-determined margin. P\F\O\ is released when VCC rises above (See Datasheet)", 6 ~{RST} (oc) "Reset Output. R\S\T\ pulls low when VCC falls below the reset threshold. R\S\T\ is released 200ms after VCC exceeds the reset threshold plus 5% hysteresis. R\S\T\ is available with open-drain (LTC2935-1/LTC2935-3) or active (See Datasheet)", 7 ~{MR} (in) "Manual Reset Input. Attach a pushbutton switch between this input and ground. A logic low on this input pulls R\S\T\ low. When the M\R\ input returns to logic high, R\S\T\ returns high after 200ms. Tie to VCC if unused.", 8 VCC (power) "Power Supply and Monitored Voltage Input. Bypass VCC with a 0.1uF capacitor to GND."

## LTC2935CTS8-1#TRMPBF
designator U?
Ultra-Low Power Supervisor with Power-Fail Output, Selectable Threshold, 8-pin SOT23 (TS8-8), 0 to 70 degC, Pb-Free, Mini Tape and Reel; Manufacturer: Linear Technology; PartNumber: LTC2935CTS8-1#TRMPBF; Number of Supplies(#): 1; DatasheetVersion: Rev. A; PackageVersion: Rev. A, 08/2010; PackageReference: TS8-8; PackageDescription: 8-Pin Plastic TSOT-23, Body 2.9 x 1.63 mm, Pitch 0.65 mm; Supplier 1: Digi-Key; Supplier Part Number 1: LTC2935CTS8-1#TRMPBFTR-ND; Supplier 2: Digi-Key; Supplier Part Number 2: LTC2935CTS8-1#TRMPBFCT-ND; Supplier 3: Digi-Key; Supplier Part Number 3: LTC2935CTS8-1#TRMPBFDKR-ND; Packing: Mini Tape and Reel; RoHS: TRUE; Mounting Technology: Surface Mount; Code_JEDEC: MO-193; ComponentLink1Description: Manufacturer URL; ComponentLink1URL: http://www.linear.com/; ComponentLink2Description: Datasheet; ComponentLink2URL: http://cds.linear.com/docs/en/datasheet/2935fa.pdf; ComponentLink3Description: Package Specification; ComponentLink3URL: http://cds.linear.com/docs/en/packaging/SOT_8_05-08-1637.pdf
footprint LT-TS8-8-TSOT-23_V (SOT23, 8-Leads, Body 2.9x1.75mm, Pitch 0.65mm)
pins: 1 S2 (in) "Threshold Selection Input. Tie to GND or VCC for required reset threshold. See the Falling Threshold Selection Table on page 1 for settings.", 2 S1 (in) "Threshold Selection Input. Tie to GND or VCC for required reset threshold. See the Falling Threshold Selection Table on page 1 for settings.", 3 S0 (in) "Threshold Selection Input. Tie to GND or VCC for required reset threshold. See the Falling Threshold Selection Table on page 1 for settings.", 4 GND (power) "Device ground.", 5 ~{PFO} (oc) "Power-Fail Output. P\F\O\ pulls low when VCC falls below the power-fail threshold. The power-fail threshold is above the configured falling reset threshold by a pre-determined margin. P\F\O\ is released when VCC rises above (See Datasheet)", 6 ~{RST} (oc) "Reset Output. R\S\T\ pulls low when VCC falls below the reset threshold. R\S\T\ is released 200ms after VCC exceeds the reset threshold plus 5% hysteresis. R\S\T\ is available with open-drain (LTC2935-1/LTC2935-3) or active (See Datasheet)", 7 ~{MR} (in) "Manual Reset Input. Attach a pushbutton switch between this input and ground. A logic low on this input pulls R\S\T\ low. When the M\R\ input returns to logic high, R\S\T\ returns high after 200ms. Tie to VCC if unused.", 8 VCC (power) "Power Supply and Monitored Voltage Input. Bypass VCC with a 0.1uF capacitor to GND."

## LTC2935CTS8-1#TRPBF
designator U?
Ultra-Low Power Supervisor with Power-Fail Output, Selectable Threshold, 8-pin SOT23 (TS8-8), 0 to 70 degC, Pb-Free, Tape and Reel; Manufacturer: Linear Technology; PartNumber: LTC2935CTS8-1#TRPBF; Number of Supplies(#): 1; DatasheetVersion: Rev. A; PackageVersion: Rev. A, 08/2010; PackageReference: TS8-8; PackageDescription: 8-Pin Plastic TSOT-23, Body 2.9 x 1.63 mm, Pitch 0.65 mm; Supplier 1: Digi-Key; Supplier Part Number 1: LTC2935CTS8-1#TRPBF-ND; Packing: Tape and Reel; RoHS: TRUE; Mounting Technology: Surface Mount; Code_JEDEC: MO-193; ComponentLink1Description: Manufacturer URL; ComponentLink1URL: http://www.linear.com/; ComponentLink2Description: Datasheet; ComponentLink2URL: http://cds.linear.com/docs/en/datasheet/2935fa.pdf; ComponentLink3Description: Package Specification; ComponentLink3URL: http://cds.linear.com/docs/en/packaging/SOT_8_05-08-1637.pdf
footprint LT-TS8-8-TSOT-23_V (SOT23, 8-Leads, Body 2.9x1.75mm, Pitch 0.65mm)
pins: 1 S2 (in) "Threshold Selection Input. Tie to GND or VCC for required reset threshold. See the Falling Threshold Selection Table on page 1 for settings.", 2 S1 (in) "Threshold Selection Input. Tie to GND or VCC for required reset threshold. See the Falling Threshold Selection Table on page 1 for settings.", 3 S0 (in) "Threshold Selection Input. Tie to GND or VCC for required reset threshold. See the Falling Threshold Selection Table on page 1 for settings.", 4 GND (power) "Device ground.", 5 ~{PFO} (oc) "Power-Fail Output. P\F\O\ pulls low when VCC falls below the power-fail threshold. The power-fail threshold is above the configured falling reset threshold by a pre-determined margin. P\F\O\ is released when VCC rises above (See Datasheet)", 6 ~{RST} (oc) "Reset Output. R\S\T\ pulls low when VCC falls below the reset threshold. R\S\T\ is released 200ms after VCC exceeds the reset threshold plus 5% hysteresis. R\S\T\ is available with open-drain (LTC2935-1/LTC2935-3) or active (See Datasheet)", 7 ~{MR} (in) "Manual Reset Input. Attach a pushbutton switch between this input and ground. A logic low on this input pulls R\S\T\ low. When the M\R\ input returns to logic high, R\S\T\ returns high after 200ms. Tie to VCC if unused.", 8 VCC (power) "Power Supply and Monitored Voltage Input. Bypass VCC with a 0.1uF capacitor to GND."

## LTC2935CTS8-2#PBF
designator U?
Ultra-Low Power Supervisor with Power-Fail Output, Selectable Threshold, 8-pin SOT23 (TS8-8), 0 to 70 degC, Pb-Free; Manufacturer: Linear Technology; PartNumber: LTC2935CTS8-2#PBF; Number of Supplies(#): 1; DatasheetVersion: Rev. A; PackageVersion: Rev. A, 08/2010; PackageReference: TS8-8; PackageDescription: 8-Pin Plastic TSOT-23, Body 2.9 x 1.63 mm, Pitch 0.65 mm; Supplier 1: Newark; Supplier Part Number 1: 78T3097; RoHS: TRUE; Mounting Technology: Surface Mount; Code_JEDEC: MO-193; ComponentLink1Description: Manufacturer URL; ComponentLink1URL: http://www.linear.com/; ComponentLink2Description: Datasheet; ComponentLink2URL: http://cds.linear.com/docs/en/datasheet/2935fa.pdf; ComponentLink3Description: Package Specification; ComponentLink3URL: http://cds.linear.com/docs/en/packaging/SOT_8_05-08-1637.pdf
footprint LT-TS8-8-TSOT-23_V (SOT23, 8-Leads, Body 2.9x1.75mm, Pitch 0.65mm)
pins: 1 S2 (in) "Threshold Selection Input. Tie to GND or VCC for required reset threshold. See the Falling Threshold Selection Table on page 1 for settings.", 2 S1 (in) "Threshold Selection Input. Tie to GND or VCC for required reset threshold. See the Falling Threshold Selection Table on page 1 for settings.", 3 S0 (in) "Threshold Selection Input. Tie to GND or VCC for required reset threshold. See the Falling Threshold Selection Table on page 1 for settings.", 4 GND (power) "Device ground.", 5 ~{PFO} (out) "Power-Fail Output. P\F\O\ pulls low when VCC falls below the power-fail threshold. The power-fail threshold is above the configured falling reset threshold by a pre-determined margin. P\F\O\ is released when VCC rises above (See Datasheet)", 6 ~{RST} (out) "Reset Output. R\S\T\ pulls low when VCC falls below the reset threshold. R\S\T\ is released 200ms after VCC exceeds the reset threshold plus 5% hysteresis. R\S\T\ is available with open-drain (LTC2935-1/LTC2935-3) or active (See Datasheet)", 7 ~{MR} (in) "Manual Reset Input. Attach a pushbutton switch between this input and ground. A logic low on this input pulls R\S\T\ low. When the M\R\ input returns to logic high, R\S\T\ returns high after 200ms. Tie to VCC if unused.", 8 VCC (power) "Power Supply and Monitored Voltage Input. Bypass VCC with a 0.1uF capacitor to GND."